# EAGLE library part 66200811022 (library Wuerth_Elektronik_eiCan_08_Micro_Power_Connectors)
WR-MPC3 3.00mm Male Single Row Angled Header with Plastic Pegs, 8 Pins
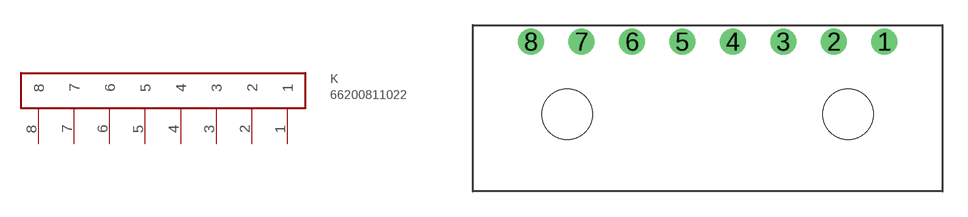
[diagram p79: symbol with the pads of 66200811022; footprint 66200811022]

Designator prefix K

## 66200811022  [66200811022]
1  1
2  2
3  3
4  4
5  5
6  6
7  7
8  8

## Footprint 66200811022 (pad centres in mm)
WR-MPC3 3.00mm Male Single Row Angled Header with Plastic Pegs, 8 Pins
drill 1.02 round: 1 1.5,0; 2 -1.5,0; 3 -4.5,0; 4 -7.5,0; 5 -10.5,0; 6 -13.5,0; 7 -16.5,0; 8 -19.5,0
hole 3 at -0.66,-4.32
hole 3 at -17.34,-4.32